# Altium footprint library PowerLoadAdjustableModule.PcbLib: 49 footprints (part 2 of 4)
Each footprint in its own frame and in the unit in brackets; x right, y up, seen from the top. Pads: shape width x height; smd on the part's side, far side on the other; paste and mask are expansions set on the pad; w line width, h text height; cw(c..) or ccw(c..) is an arc to the next point about the centre after c.
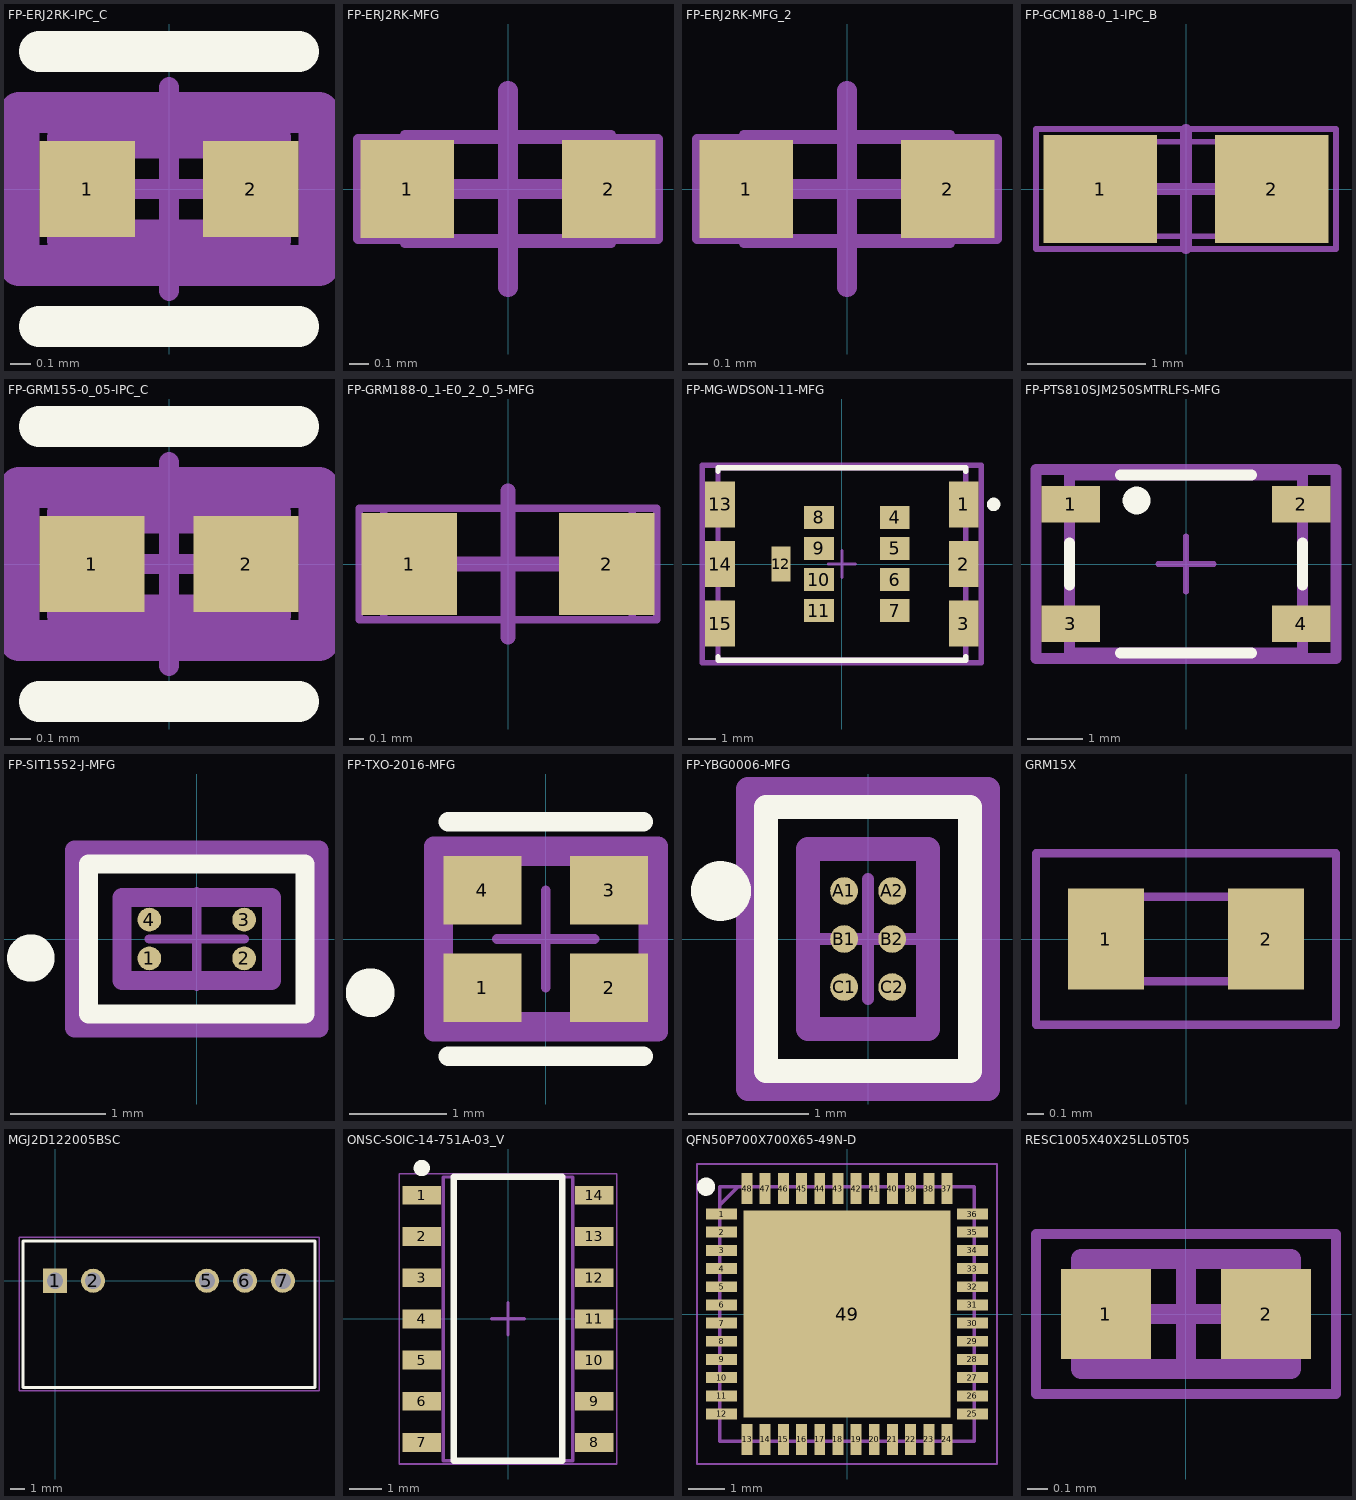
[diagram p1: the footprints below, top view; thin cyan lines are the x and y axes]

## FP-ERJ2RK-IPC_C [mm]
pads (2):
  rect 0.468x0.472 smd paste+0 mask+0: 1(-0.402,0) 2(0.402,0)
Top Overlay:
  lines w0.2: -0.636,-0.675 0.636,-0.675 ; -0.636,0.675 0.636,0.675
Top Assembly:
  lines w0.2: -0.736,-0.375 0.736,-0.375 0.736,0.375 -0.736,0.375 -0.736,-0.375
  text ".Designator" at 0,0.188 h1
Top 3D Body:
  lines w0.2: -0.5,-0.25 0.5,-0.25 0.5,0.25 -0.5,0.25 -0.5,-0.25
Top Courtyard:
  lines w0.2: -0.736,-0.375 0.736,-0.375 0.736,0.375 -0.736,0.375 -0.736,-0.375
Top Component Center:
  lines w0.1: -0.5,0 0.5,0 ; 0,-0.5 0,0.5
3D body "Res_Panasonic_ERJ-2RKF10R0X_eec.STEP": height 0.25, standoff 0, extent -0.736,-0.375 0.736,0.375

## FP-ERJ2RK-MFG [mm]
pads (2):
  rect 0.475x0.5 smd paste+0 mask+0: 1(-0.513,0) 2(0.513,0)
Top Assembly:
  lines w0.05: -0.762,-0.254 0.762,-0.254 0.762,0.254 -0.762,0.254 -0.762,-0.254
  text ".Designator" at 0,0.188 h1
Top 3D Body:
  lines w0.05: -0.525,-0.275 0.525,-0.275 0.525,0.275 -0.525,0.275 -0.525,-0.275
Top Courtyard:
  lines w0.05: -0.762,-0.254 0.762,-0.254 0.762,0.254 -0.762,0.254 -0.762,-0.254
Top Component Center:
  lines w0.1: -0.5,0 0.5,0 ; 0,-0.5 0,0.5
3D body "Res_Panasonic_ERJ-2RKF1802X_eec.STEP": height 0.25, standoff 0, extent -0.85,-0.375 0.85,0.375

## FP-ERJ2RK-MFG_2 [mm]
pads (2):
  rect 0.475x0.5 smd paste+0 mask+0: 1(-0.513,0) 2(0.513,0)
Top Assembly:
  lines w0.05: -0.762,-0.254 0.762,-0.254 0.762,0.254 -0.762,0.254 -0.762,-0.254
  text ".Designator" at 0,0.188 h1
Top 3D Body:
  lines w0.05: -0.525,-0.275 0.525,-0.275 0.525,0.275 -0.525,0.275 -0.525,-0.275
Top Courtyard:
  lines w0.05: -0.762,-0.254 0.762,-0.254 0.762,0.254 -0.762,0.254 -0.762,-0.254
Top Component Center:
  lines w0.1: -0.5,0 0.5,0 ; 0,-0.5 0,0.5
3D body "Res_Panasonic_ERJ-2RKF1802X_eec.STEP": height 0.25, standoff 0, extent -0.85,-0.375 0.85,0.375

## FP-GCM188-0_1-IPC_B [mm]
pads (2):
  rect 0.959x0.912 smd paste+0 mask+0: 1(-0.727,0) 2(0.727,0)
Top Assembly:
  lines w0.05: -1.27,-0.508 1.27,-0.508 1.27,0.508 -1.27,0.508 -1.27,-0.508
  text ".Designator" at 0,0.188 h1
Top 3D Body:
  lines w0.05: -0.8,-0.4 0.8,-0.4 0.8,0.4 -0.8,0.4 -0.8,-0.4
Top Courtyard:
  lines w0.05: -1.27,-0.508 1.27,-0.508 1.27,0.508 -1.27,0.508 -1.27,-0.508
Top Component Center:
  lines w0.1: -0.5,0 0.5,0 ; 0,-0.5 0,0.5
3D body "Cap_Murata_GCM1885C2A5R3BA16J_eec.STEP": height 0.25, standoff 0, extent -1.456,-0.706 1.456,0.706

## FP-GRM155-0_05-IPC_C [mm]
pads (2):
  rect 0.515x0.472 smd paste+0 mask+0: 1(-0.379,0) 2(0.379,0)
Top Overlay:
  lines w0.2: -0.636,-0.675 0.636,-0.675 ; -0.636,0.675 0.636,0.675
Top Assembly:
  lines w0.2: -0.736,-0.375 0.736,-0.375 0.736,0.375 -0.736,0.375 -0.736,-0.375
  text ".Designator" at 0,0.188 h1
Top 3D Body:
  lines w0.2: -0.5,-0.25 0.5,-0.25 0.5,0.25 -0.5,0.25 -0.5,-0.25
Top Courtyard:
  lines w0.2: -0.736,-0.375 0.736,-0.375 0.736,0.375 -0.736,0.375 -0.736,-0.375
Top Component Center:
  lines w0.1: -0.5,0 0.5,0 ; 0,-0.5 0,0.5
3D body "Cap_Murata_GRM1552C1H271GA01J_eec.STEP": height 0.25, standoff 0, extent -0.736,-0.375 0.736,0.375

## FP-GRM188-0_1-E0_2_0_5-MFG [mm]
pads (2):
  rect 0.65x0.7 smd paste+0 mask+0: 1(-0.675,0) 2(0.675,0)
Top Assembly:
  lines w0.05: -1.016,-0.381 -1.016,0.381 1.016,0.381 1.016,-0.381 -1.016,-0.381
  text ".Designator" at 0,0.188 h1
Top 3D Body:
  lines w0.05: -0.85,-0.381 -0.85,0.381 0.85,0.381 0.85,-0.381 -0.85,-0.381
Top Courtyard:
  lines w0.05: -1.016,-0.381 -1.016,0.381 1.016,0.381 1.016,-0.381 -1.016,-0.381
Top Component Center:
  lines w0.1: -0.5,0 0.5,0 ; 0,-0.5 0,0.5
3D body "Cap_Murata_GRM188R61E225KA12D_eec.STEP": height 0.25, standoff 0, extent -1.1,-0.55 1.1,0.55

## FP-MG-WDSON-11-MFG [mm]
pads (15):
  rect 1.1x1.7 smd paste-1000 mask+0: 1(4.5,2.2) 2(4.5,0) 3(4.5,-2.2) 13(-4.5,2.2) 14(-4.5,0) 15(-4.5,-2.2)
  rect 1.1x0.85 smd paste-1000 mask+0: 4(1.95,1.725) 5(1.95,0.575) 6(1.95,-0.575) 7(1.95,-1.725) 8(-0.85,1.725) 9(-0.85,0.575) 10(-0.85,-0.575) 11(-0.85,-1.725)
  rect 0.7x1.3 smd paste-1000 mask+0: 12(-2.25,0)
Top Overlay:
  circle w0.25: c5.6,2.2 r0.125
  lines w0.2: -4.575,-3.425 -4.575,-3.55 4.575,-3.55 4.575,-3.425 ; -4.575,3.425 -4.575,3.55 4.575,3.55 4.575,3.425
Top Paste:
  rectangle: -4.95,1.45 -4.05,2.95
  rectangle: -4.95,-0.75 -4.05,0.75
  rectangle: -4.95,-2.95 -4.05,-1.45
  rectangle: 4.05,1.45 4.95,2.95
  rectangle: 4.05,-0.75 4.95,0.75
  rectangle: 4.05,-2.95 4.95,-1.45
  rectangle: -2.562,-0.55 -1.937,0.55
  rectangle: -1.35,1.375 -0.35,2.075
  rectangle: -1.35,0.225 -0.35,0.925
  rectangle: -1.35,-0.925 -0.35,-0.225
  rectangle: -1.35,-2.075 -0.35,-1.375
  rectangle: 1.45,1.375 2.45,2.075
  rectangle: 1.45,0.225 2.45,0.925
  rectangle: 1.45,-0.925 2.45,-0.225
  rectangle: 1.45,-2.075 2.45,-1.375
Top Assembly:
  lines w0.2: -5.15,-3.65 5.15,-3.65 5.15,3.65 -5.15,3.65 -5.15,-3.65
  text ".Designator" at 0,0.188 h1
Top 3D Body:
  lines w0.2: -4.575,-3.55 4.575,-3.55 4.575,3.55 -4.575,3.55 -4.575,-3.55
Top Courtyard:
  lines w0.2: -5.15,-3.65 5.15,-3.65 5.15,3.65 -5.15,3.65 -5.15,-3.65
Top Component Center:
  lines w0.1: -0.5,0 0.5,0 ; 0,-0.5 0,0.5
3D body "Trans_Infineon_IRF7759L2TRPBF_eec.STEP": height 0.25, standoff 0, extent -5.15,-3.65 5.15,3.65

## FP-PTS810SJM250SMTRLFS-MFG [mm]
pads (4):
  rect 1.05x0.65 smd paste+0 mask+0: 1(-2.075,1.075) 2(2.075,1.075) 3(-2.075,-1.075) 4(2.075,-1.075)
Top Overlay:
  circle w0.25: c-0.889,1.143 r0.125
  lines w0.2: -2.1,-0.375 -2.1,0.375 ; -1.175,-1.6 1.175,-1.6 ; -1.175,1.6 1.175,1.6 ; 2.1,-0.375 2.1,0.375
Top Assembly:
  lines w0.2: -2.7,-1.7 2.7,-1.7 2.7,1.7 -2.7,1.7 -2.7,-1.7
  text ".Designator" at 0,0.188 h1
Top 3D Body:
  lines w0.2: -2.1,-1.6 2.1,-1.6 2.1,1.6 -2.1,1.6 -2.1,-1.6
Top Courtyard:
  lines w0.2: -2.7,-1.7 2.7,-1.7 2.7,1.7 -2.7,1.7 -2.7,-1.7
Top Component Center:
  lines w0.1: -0.5,0 0.5,0 ; 0,-0.5 0,0.5
3D body "Switch_C&K_Components_PTS810SJM250SMTRLFS_eec.STEP": height 0.25, standoff 0, extent -2.7,-1.7 2.7,1.7

## FP-SIT1552-J-MFG [mm]
pads (4):
  round 0.25 smd paste+0 mask-1000: 1(-0.5,-0.205) 2(0.5,-0.205) 3(0.5,0.205) 4(-0.5,0.205)
Top Overlay:
  circle w0.25: c-1.75,-0.2 r0.125
  lines w0.2: -1.14,-0.79 1.14,-0.79 1.14,0.79 -1.14,0.79 -1.14,-0.79
Top Solder:
  circle w0.175: c-0.5,-0.205 r0.088
  circle w0.175: c0.5,-0.205 r0.088
  circle w0.175: c-0.5,0.205 r0.088
  circle w0.175: c0.5,0.205 r0.088
Top Assembly:
  lines w0.2: -1.29,-0.94 -1.29,0.94 1.29,0.94 1.29,-0.94 -1.29,-0.94
  text ".Designator" at 0,0.188 h1
Top 3D Body:
  lines w0.2: -0.79,-0.44 0.79,-0.44 0.79,0.44 -0.79,0.44 -0.79,-0.44
Top Courtyard:
  lines w0.2: -1.29,-0.94 -1.29,0.94 1.29,0.94 1.29,-0.94 -1.29,-0.94
Top Component Center:
  lines w0.1: -0.5,0 0.5,0 ; 0,-0.5 0,0.5
3D body "Crys_SiTime_SIT1552AI-JE-DCC-32_768S_eec.STEP": height 0.25, standoff 0, extent -1.29,-0.94 1.29,0.94

## FP-TXO-2016-MFG [mm]
pads (4):
  rect 0.8x0.7 smd paste+0 mask+0: 1(-0.65,-0.5) 2(0.65,-0.5) 3(0.65,0.5) 4(-0.65,0.5)
Top Overlay:
  circle w0.25: c-1.8,-0.55 r0.125
  lines w0.2: -1,-1.2 1,-1.2 ; -1,1.2 1,1.2
Top Assembly:
  lines w0.2: -1.15,-0.95 -1.15,0.95 1.15,0.95 1.15,-0.95 -1.15,-0.95
  text ".Designator" at 0,0.188 h1
Top 3D Body:
  lines w0.2: -1.05,-0.85 -1.05,0.85 1.05,0.85 1.05,-0.85 -1.05,-0.85
Top Courtyard:
  lines w0.2: -1.15,-0.95 -1.15,0.95 1.15,0.95 1.15,-0.95 -1.15,-0.95
Top Component Center:
  lines w0.1: -0.5,0 0.5,0 ; 0,-0.5 0,0.5
3D body "Crys_ECS_ECS-TXO-2016-33-160-TR_eec.STEP": height 0.25, standoff 0, extent -1.15,-0.95 1.15,0.95

## FP-YBG0006-MFG [mm]
pads (6):
  round 0.23 smd paste-1000 mask-1000: A1(-0.2,0.4) A2(0.2,0.4) B1(-0.2,0) B2(0.2,0) C1(-0.2,-0.4) C2(0.2,-0.4)
Top Overlay:
  circle w0.25: c-1.225,0.4 r0.125
  lines w0.2: -0.849,-1.099 0.849,-1.099 0.849,1.099 -0.849,1.099 -0.849,-1.099
Top Paste:
  drawing of 6 lines, arcs and shapes, not listed
Top Solder:
  circle w0.165: c-0.2,0.4 r0.082
  circle w0.165: c-0.2,0 r0.082
  circle w0.165: c-0.2,-0.4 r0.082
  circle w0.165: c0.2,0.4 r0.082
  circle w0.165: c0.2,0 r0.082
  circle w0.165: c0.2,-0.4 r0.082
Top Assembly:
  lines w0.2: -0.999,-1.249 0.999,-1.249 0.999,1.249 -0.999,1.249 -0.999,-1.249
  text ".Designator" at 0,0.188 h1
Top 3D Body:
  lines w0.2: -0.499,-0.749 0.499,-0.749 0.499,0.749 -0.499,0.749 -0.499,-0.749
Top Courtyard:
  lines w0.2: -0.999,-1.249 0.999,-1.249 0.999,1.249 -0.999,1.249 -0.999,-1.249
Top Component Center:
  lines w0.1: -0.5,0 0.5,0 ; 0,-0.5 0,0.5
3D body "IC_Texas_Instruments_TMP117MAIYBGR_eec.STEP": height 0.25, standoff 0, extent -0.999,-1.249 0.999,1.249

## GRM15X [mm]
pads (2):
  rect 0.45x0.6 smd: 1(-0.475,0) 2(0.475,0)
Top 3D Body:
  lines w0.05: -0.5,-0.25 0.5,-0.25 0.5,0.25 -0.5,0.25 -0.5,-0.25
Top Courtyard:
  lines w0.05: -0.889,-0.508 0.889,-0.508 0.889,0.508 -0.889,0.508 -0.889,-0.508
3D body "GRM155R61H105KE05J.stp": height 0.5, standoff 0, extent -0.5,-0.28 0.5,0.27

## MGJ2D122005BSC [mm]
pads (5):
  rect 1.612x1.612 hole 1.075: 1(0,0)
  round 1.612 hole 1.075: 2(2.54,0) 5(10.16,0) 6(12.7,0) 7(15.24,0)
Top Overlay:
  lines w0.2: -2.13,-7.13 -2.13,2.67 17.37,2.67 17.37,-7.13 -2.13,-7.13
Top 3D Body:
  lines w0.1: -2.13,-7.13 -2.13,2.67 17.37,2.67 17.37,-7.13 -2.13,-7.13
Top Courtyard:
  lines w0.1: -2.413,-7.366 -2.413,2.921 17.653,2.921 17.653,-7.366 -2.413,-7.366
3D body "MGJ2D122005BSC.stp": height 12.85, standoff -5, extent -2.13,-7.13 17.37,2.67

## ONSC-SOIC-14-751A-03_V [mm]
pads (14):
  rect 1.18x0.58 smd: 1(-2.66,3.81) 2(-2.66,2.54) 3(-2.66,1.27) 4(-2.66,0) 5(-2.66,-1.27) 6(-2.66,-2.54) 7(-2.66,-3.81) 8(2.66,-3.81) 9(2.66,-2.54) 10(2.66,-1.27) 11(2.66,0) 12(2.66,1.27) 13(2.66,2.54) 14(2.66,3.81)
Top Overlay:
  circle w0.25: c-2.66,4.65 r0.125
  lines w0.2: -1.67,-4.375 1.67,-4.375 1.67,4.375 -1.67,4.375 -1.67,-4.375
Top 3D Body:
  lines w0.1: -2,-4.375 -2,4.375 2,4.375 2,-4.375 -2,-4.375
Top Courtyard:
  lines w0.05: -3.35,-4.475 -3.35,4.475 3.35,4.475 3.35,-4.475 -3.35,-4.475
  lines w0.1: -0.5,0 0.5,0 ; 0,-0.5 0,0.5
3D body: height 1.75, standoff 0.1, extent -2,-4.375 2,4.375

## QFN50P700X700X65-49N-D [mm]
pads (49):
  rect 0.85x0.3 smd: 1(-3.45,2.75) 2(-3.45,2.25) 3(-3.45,1.75) 4(-3.45,1.25) 5(-3.45,0.75) 6(-3.45,0.25) 7(-3.45,-0.25) 8(-3.45,-0.75) 9(-3.45,-1.25) 10(-3.45,-1.75) 11(-3.45,-2.25) 12(-3.45,-2.75) 25(3.45,-2.75) 26(3.45,-2.25) 27(3.45,-1.75) 28(3.45,-1.25) 29(3.45,-0.75) 30(3.45,-0.25) 31(3.45,0.25) 32(3.45,0.75) 33(3.45,1.25) 34(3.45,1.75) 35(3.45,2.25) 36(3.45,2.75)
  rect 0.3x0.85 smd: 13(-2.75,-3.45) 14(-2.25,-3.45) 15(-1.75,-3.45) 16(-1.25,-3.45) 17(-0.75,-3.45) 18(-0.25,-3.45) 19(0.25,-3.45) 20(0.75,-3.45) 21(1.25,-3.45) 22(1.75,-3.45) 23(2.25,-3.45) 24(2.75,-3.45) 37(2.75,3.45) 38(2.25,3.45) 39(1.75,3.45) 40(1.25,3.45) 41(0.75,3.45) 42(0.25,3.45) 43(-0.25,3.45) 44(-0.75,3.45) 45(-1.25,3.45) 46(-1.75,3.45) 47(-2.25,3.45) 48(-2.75,3.45)
  rect 5.7x5.7 smd: 49(0,0)
Top Overlay:
  circle w0.25: c-3.875,3.5 r0.125
Top 3D Body:
  lines w0.1: -3.5,3 -3,3.5 ; -3.5,-3.5 3.5,-3.5 3.5,3.5 -3.5,3.5 -3.5,-3.5
Top Courtyard:
  lines w0.05: -4.125,-4.125 4.125,-4.125 4.125,4.125 -4.125,4.125 -4.125,-4.125
3D body "STM32G431CBU6.stp": height 0.57, standoff 0, extent -3.5,-3.5 3.5,3.5

## RESC1005X40X25LL05T05 [mm]
pads (2):
  rect 0.45x0.45 smd: 1(-0.4,0) 2(0.4,0)
Top 3D Body:
  lines w0.1: -0.525,-0.275 0.525,-0.275 0.525,0.275 -0.525,0.275 -0.525,-0.275
Top Courtyard:
  lines w0.05: -0.75,-0.4 0.75,-0.4 0.75,0.4 -0.75,0.4 -0.75,-0.4
  lines w0.1: -0.275,0 0.275,0 ; 0,-0.275 0,0.275
3D body "RESC1005X04L.step": height 0.4, standoff 0, extent -0.525,-0.275 0.525,0.275